# Altium integrated library DCJ200-10-A-XX-X_REVA.IntLib: 1 symbol
Pins are listed as number, name and electrical type; pins without a type are passive.

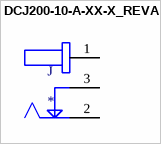
[diagram p0: symbol DCJ200-10-A-XX-X_REVA]

## DCJ200-10-A-XX-X_REVA
designator J
Power Barrel Connector Jack 2.05mm ID _0.081_, 5.50mm OD _0.217_ Through Hole, Right Angle; MP: DCJ200-10-A-K1-K; MF: Global Connector Technology; Package: None; Availability: Unavailable; Value: *; SnapEDA_Link: https://www.snapeda.com/parts/DCJ200-10-A-K1-K/Global%20Connector%20Technology/view-part/641259/?ref=snap; Price: None
footprint GCT_DCJ200-10-A-XX-X_REVA
pins: 1, 2, 3